# EAGLE library part WT12-VISUAL (library jetney-silabs-modules)
Bluegiga WT12 class 2 Bluetooth 2.1 + EDR module. WT12-A variant has an on-module ceramic chip antenna. WT12-A variant includes keepout/restrict area. Antenna edge of the module should be flush up against the edge of the PCB. See datasheet for variant layout details. The WT12 is a fully integrated Bluetooth 2.1 + EDR, class 2 module combining antenna, Bluetooth radio, and an on-board iWRAP Bluetooth stack. Bluegiga's WT12 constitutes the ideal solution for developers that want to quickly integrate Bluetooth wireless technology into their design without investing several months in Bluetooth radio and stack development. It uses Bluegiga's iWRAP Bluetooth stack, which is an embedded Bluetooth stack implementing 13 different Bluetooth profiles and Apple iAP connectivity. The WT12 combined with iWRAP Bluetooth stack and Bluegiga's excellent technical support designers ensure quick time-to-market and low development costs and risks. http://www.bluegiga.com/en-US/products/bluetooth-classic-modules/wt12-bluetooth--class-2-module https://github.com/jrowberg/sf-oshw Last updated 2014-01-04 by Jeff Rowberg <jeff@rowberg.net>
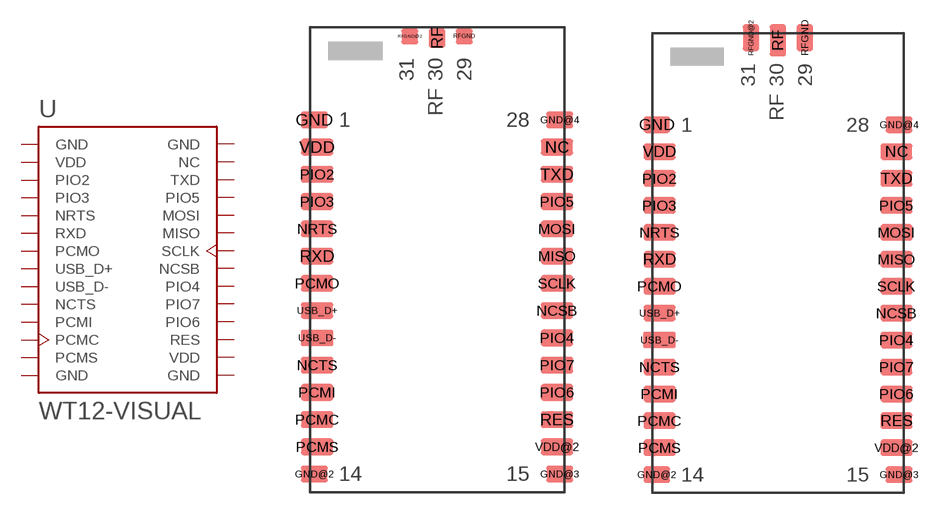
[diagram p8: symbol with the pads of WT12-A-SHORTRF; footprints WT12-A-SHORTRF, WT12-A]

Designator prefix U

## WT12-VISUAL-A-SHORTRF (ANTENNA: On-module ceramic chip antenna)  [WT12-A-SHORTRF]
GND  GND  pwr
GND@2  GND  pwr
GND@3  GND  pwr
GND@4  GND  pwr
MISO  MISO  out
MOSI  MOSI  in
NC  NC  nc
NCSB  NCSB  in
NCTS  NCTS  in
NRTS  NRTS  out
PCMC  PCMC
PCMI  PCMI  in
PCMO  PCMO  out
PCMS  PCMS
PIO2  PIO2
PIO3  PIO3
PIO4  PIO4
PIO5  PIO5
PIO6  PIO6
PIO7  PIO7
RES  RES  in
RXD  RXD  in
SCLK  SCLK  in
TXD  TXD  out
USB_D+  USB_D+
USB_D-  USB_D-
VDD  VDD  pwr
VDD@2  VDD  pwr

## WT12-VISUAL-A (ANTENNA: On-module ceramic chip antenna)  [WT12-A]
Pads as for WT12-A-SHORTRF

## WT12-VISUAL-A-NORF (ANTENNA: On-module ceramic chip antenna)  [WT12-A-NORF]
Pads as for WT12-A-SHORTRF

## Footprint WT12-A-SHORTRF (pad centres in mm)
Bluegiga WT12 class 2 Bluetooth 2.1 + EDR module. WT12-A variant has an on-module ceramic chip antenna. WT12-A variant includes keepout/restrict area. Antenna edge of the module should be flush up against the edge of the PCB. See datasheet for variant layout details. This is a special package with shortened RF pin landing pads. If PCB space is in short supply, then reducing the size of these pads can save a millimeter or two on the antenna edge of the PCB. The WT12 is a fully integrated Bluetooth 2.1 + EDR, class 2 module combining antenna, Bluetooth radio, and an on-board iWRAP Bluetooth stack. Bluegiga's WT12 constitutes the ideal solution for developers that want to quickly integrate Bluetooth wireless technology into their design without investing several months in Bluetooth radio and stack development. It uses Bluegiga's iWRAP Bluetooth stack, which is an embedded Bluetooth stack implementing 13 different Bluetooth profiles and Apple iAP connectivity. The WT12 combined with iWRAP Bluetooth stack and Bluegiga's excellent technical support designers ensure quick time-to-market and low development costs and risks. http://www.bluegiga.com/en-US/products/bluetooth-classic-modules/wt12-bluetooth--class-2-module https://github.com/jrowberg/sf-oshw Last updated 2014-01-04 by Jeff Rowberg <jeff@rowberg.net>
smd 1.478 x 0.914: GND -6.75,7.7; GND@2 -6.75,-11.8; GND@3 6.75,-11.8; GND@4 6.75,7.7
smd 1.778 x 0.914: MISO 6.6,0.2; MOSI 6.6,1.7; NC 6.6,6.2; NCSB 6.6,-2.8; NCTS -6.6,-5.8; NRTS -6.6,1.7; PCMC -6.6,-8.8; PCMI -6.6,-7.3; PCMO -6.6,-1.3; PCMS -6.6,-10.3; PIO2 -6.6,4.7; PIO3 -6.6,3.2; PIO4 6.6,-4.3; PIO5 6.6,3.2; PIO6 6.6,-7.3; PIO7 6.6,-5.8; RES 6.6,-8.8; RXD -6.6,0.2; SCLK 6.6,-1.3; TXD 6.6,4.7; USB_D+ -6.6,-2.8; USB_D- -6.6,-4.3; VDD -6.6,6.2; VDD@2 6.6,-10.3
smd 0.914 x 1.078: RF 0,12.2
smd 0.914 x 0.878: RFGND 1.5,12.3; RFGND@2 -1.5,12.3

## Footprint WT12-A (pad centres in mm)
Bluegiga WT12 class 2 Bluetooth 2.1 + EDR module. WT12-A variant has an on-module ceramic chip antenna. WT12-A variant includes keepout/restrict area. Antenna edge of the module should be flush up against the edge of the PCB. See datasheet for variant layout details. The WT12 is a fully integrated Bluetooth 2.1 + EDR, class 2 module combining antenna, Bluetooth radio, and an on-board iWRAP Bluetooth stack. Bluegiga's WT12 constitutes the ideal solution for developers that want to quickly integrate Bluetooth wireless technology into their design without investing several months in Bluetooth radio and stack development. It uses Bluegiga's iWRAP Bluetooth stack, which is an embedded Bluetooth stack implementing 13 different Bluetooth profiles and Apple iAP connectivity. The WT12 combined with iWRAP Bluetooth stack and Bluegiga's excellent technical support designers ensure quick time-to-market and low development costs and risks. http://www.bluegiga.com/en-US/products/bluetooth-classic-modules/wt12-bluetooth--class-2-module https://github.com/jrowberg/sf-oshw Last updated 2014-01-04 by Jeff Rowberg <jeff@rowberg.net>
smd 1.478 x 0.914: GND -6.75,7.7; GND@2 -6.75,-11.8; GND@3 6.75,-11.8; GND@4 6.75,7.7
smd 1.778 x 0.914: MISO 6.6,0.2; MOSI 6.6,1.7; NC 6.6,6.2; NCSB 6.6,-2.8; NCTS -6.6,-5.8; NRTS -6.6,1.7; PCMC -6.6,-8.8; PCMI -6.6,-7.3; PCMO -6.6,-1.3; PCMS -6.6,-10.3; PIO2 -6.6,4.7; PIO3 -6.6,3.2; PIO4 6.6,-4.3; PIO5 6.6,3.2; PIO6 6.6,-7.3; PIO7 6.6,-5.8; RES 6.6,-8.8; RXD -6.6,0.2; SCLK 6.6,-1.3; TXD 6.6,4.7; USB_D+ -6.6,-2.8; USB_D- -6.6,-4.3; VDD -6.6,6.2; VDD@2 6.6,-10.3
smd 0.914 x 1.778: RF 0,12.4
smd 0.914 x 1.478: RFGND 1.5,12.55; RFGND@2 -1.5,12.55

## Footprint WT12-A-NORF (pad centres in mm)
Bluegiga WT12 class 2 Bluetooth 2.1 + EDR module. WT12-A variant has an on-module ceramic chip antenna. WT12-A variant includes keepout/restrict area. Antenna edge of the module should be flush up against the edge of the PCB. See datasheet for variant layout details. This is a special package without RF landing pads, though the WT12-A module itself still has them. It is recommended to keep the landing pads on your PCB and particularly the RFGND pads soldered securely. However, if PCB space must be absolutely minimized, then leaving those pads off is optional. The WT12 is a fully integrated Bluetooth 2.1 + EDR, class 2 module combining antenna, Bluetooth radio, and an on-board iWRAP Bluetooth stack. Bluegiga's WT12 constitutes the ideal solution for developers that want to quickly integrate Bluetooth wireless technology into their design without investing several months in Bluetooth radio and stack development. It uses Bluegiga's iWRAP Bluetooth stack, which is an embedded Bluetooth stack implementing 13 different Bluetooth profiles and Apple iAP connectivity. The WT12 combined with iWRAP Bluetooth stack and Bluegiga's excellent technical support designers ensure quick time-to-market and low development costs and risks. http://www.bluegiga.com/en-US/products/bluetooth-classic-modules/wt12-bluetooth--class-2-module https://github.com/jrowberg/sf-oshw Last updated 2014-01-04 by Jeff Rowberg <jeff@rowberg.net>
smd 1.478 x 0.914: GND -6.75,7.7; GND@2 -6.75,-11.8; GND@3 6.75,-11.8; GND@4 6.75,7.7
smd 1.778 x 0.914: MISO 6.6,0.2; MOSI 6.6,1.7; NC 6.6,6.2; NCSB 6.6,-2.8; NCTS -6.6,-5.8; NRTS -6.6,1.7; PCMC -6.6,-8.8; PCMI -6.6,-7.3; PCMO -6.6,-1.3; PCMS -6.6,-10.3; PIO2 -6.6,4.7; PIO3 -6.6,3.2; PIO4 6.6,-4.3; PIO5 6.6,3.2; PIO6 6.6,-7.3; PIO7 6.6,-5.8; RES 6.6,-8.8; RXD -6.6,0.2; SCLK 6.6,-1.3; TXD 6.6,4.7; USB_D+ -6.6,-2.8; USB_D- -6.6,-4.3; VDD -6.6,6.2; VDD@2 6.6,-10.3